# Altium schematic symbol library B105connectors.SchLib: 19 symbols
Pins are listed as number, name and electrical type; pins without a type are passive.

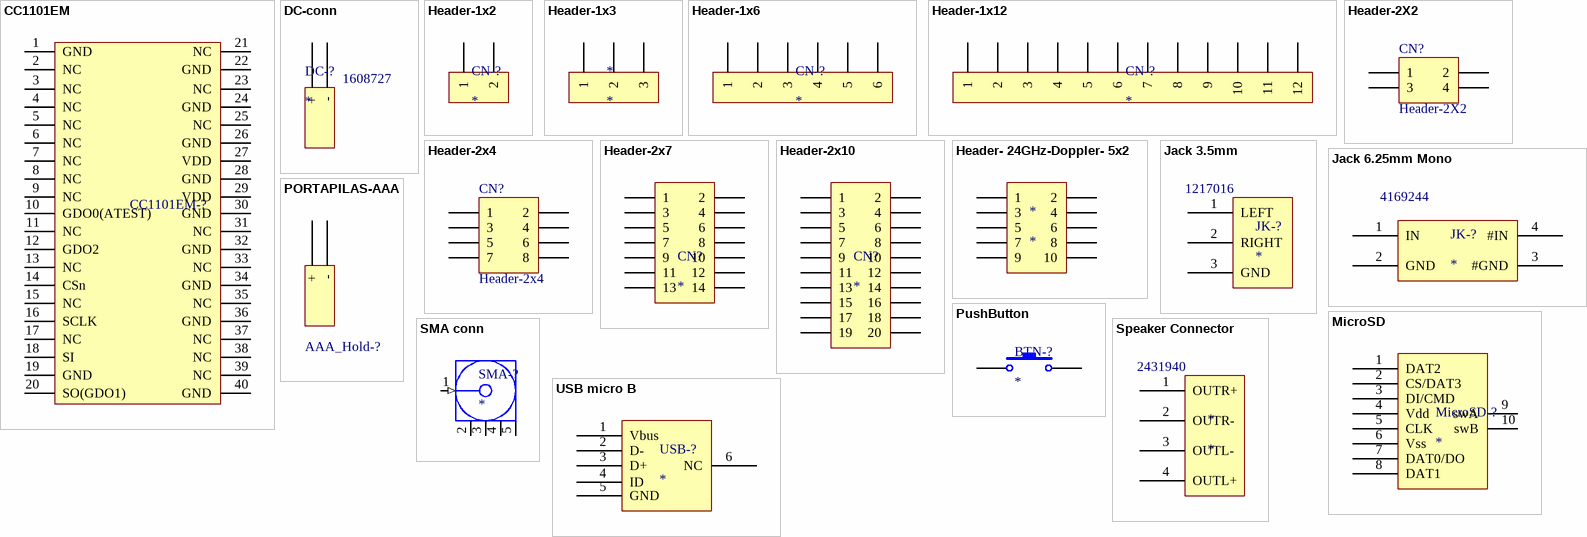
[diagram p0: symbols CC1101EM to USB micro B]

## CC1101EM
designator CC1101EM-?  (value not drawn)
footprint CC1101EM_CONN; pin to pad 1>P1-1 2>P1-2 3>P1-3 4>P1-4 5>P1-5 6>P1-6 7>P1-7 8>P1-8 9>P1-9 10>P1-10 11>P1-11 12>P1-12 13>P1-13 14>P1-14 15>P1-15 16>P1-16 17>P1-17 18>P1-18 19>P1-19 20>P1-20 21>P2-1 22>P2-2 23>P2-3 24>P2-4 25>P2-5 26>P2-6 27>P2-7 28>P2-8 29>P2-9 30>P2-10 31>P2-11 32>P2-12 33>P2-13 34>P2-14 35>P2-15 36>P2-16 37>P2-17 38>P2-18 39>P2-19 40>P2-20
pins: 1 GND (power), 2 NC, 3 NC, 4 NC, 5 NC, 6 NC, 7 NC, 8 NC, 9 NC, 10 GDO0(ATEST), 11 NC, 12 GDO2, 13 NC, 14 CSn, 15 NC, 16 SCLK, 17 NC, 18 SI, 19 GND, 20 SO(GDO1), 21 NC, 22 GND (power), 23 NC, 24 GND (power), 25 NC, 26 GND (power), 27 VDD (power), 28 GND (power), 29 VDD (power), 30 GND (power), 31 NC, 32 GND (power), 33 NC, 34 GND (power), 35 NC, 36 GND (power), 37 NC, 38 NC, 39 NC, 40 GND (power)

## DC-conn
designator DC-?  Supplier Part Number 1: 1608727
Supplier 1: Farnell
footprint DC-Conn-RAPC 722
pins: +, -

## Header-1x2
designator CN-?
footprint HEADER-1x2
footprint HEADER-1x2-Jumper
pins: 1, 2

## Header-1x3
designator *
footprint Header-1x3
footprint Header-1x3-Jumper
pins: 1, 2, 3

## Header-1x6
designator CN-?
footprint Header-1x6
pins: 1, 2, 3, 4, 5, 6

## Header-1x12
designator CN-?
footprint HEADER-1x12
pins: 1, 2, 3, 4, 5, 6, 7, 8, 9, 10, 11, 12

## Header-2X2
designator CN?
Header, 2-Pin, Dual row; LatestRevisionDate: 17-Jul-2002; LatestRevisionNote: Re-released for DXP Platform.; Publisher: Altium Limited
signal-integrity model Connector
footprint HEADER-2X2 (Connector; Header; 2x2 Position)
pins: 1, 2, 3, 4

## Header-2x4
designator CN?
Header, 4-Pin, Dual row; LatestRevisionDate: 17-Jul-2002; LatestRevisionNote: Re-released for DXP Platform.; Publisher: Altium Limited
signal-integrity model Connector
footprint HEADER-2X4 (Connector; Header; 4x2 Position)
pins: 1, 2, 3, 4, 5, 6, 7, 8

## Header-2x7
designator CN?
footprint Header-2x7 (Connector; Header; 7x2 Position)
pins: 1, 2, 3, 4, 5, 6, 7, 8, 9, 10, 11, 12, 13, 14

## Header-2x10
designator CN?
footprint Header-2x10 (Connector; Header; 10x2 Position)
pins: 1, 2, 3, 4, 5, 6, 7, 8, 9, 10, 11, 12, 13, 14, 15, 16, 17, 18, 19, 20

## Header- 24GHz-Doppler- 5x2
designator *
footprint HEADER-Doppler-24GHz-Double
pins: 1, 2, 3, 4, 5, 6, 7, 8, 9, 10

## Jack 3.5mm
designator JK-?  Supplier Part Number 1: 1217016
Supplier 1: Farnell
footprint Jack Stereo 3.5mm
pins: 1 LEFT, 2 RIGHT, 3 GND

## Jack 6.25mm Mono
designator JK-?  Supplier Part Number 1: 4169244
Supplier 1: Farnell
footprint Jack Mono 6.35mm
pins: 1 IN, 2 GND, 3 #GND, 4 #IN

## MicroSD
designator MicroSD-?
footprint MicroSD
pins: 1 DAT2, 2 CS/DAT3, 3 DI/CMD, 4 Vdd, 5 CLK, 6 Vss, 7 DAT0/DO, 8 DAT1, 9 swA, 10 swB

## PORTAPILAS-AAA
designator AAA_Hold-?  (value not drawn)
footprint PORTAPILAS-AAA
pins: +, -

## PushButton
designator BTN-?
footprint PushButton
pins: 1, 2

## SMA conn
designator SMA-?
footprint SMA-conn
pins: 1 Signal (in) "Signal Pin", 2 GND (power), 3 GND (power), 4 GND (power), 5 GND (power)

## Speaker Connector
designator *  Supplier Part Number 1: 2431940
Supplier 1: Farnell
footprint Speaker Connector
pins: 1 OUTR+, 2 OUTR-, 3 OUTL-, 4 OUTL+

## USB micro B
designator USB-?
footprint USB-MicroB
pins: 1 Vbus, 2 D-, 3 D+, 4 ID, 5 GND, 6 NC